# Altium schematic symbol library HARDWARE TASK_SCH_LIB.SchLib: 26 symbols
Pins are listed as number, name and electrical type; pins without a type are passive.

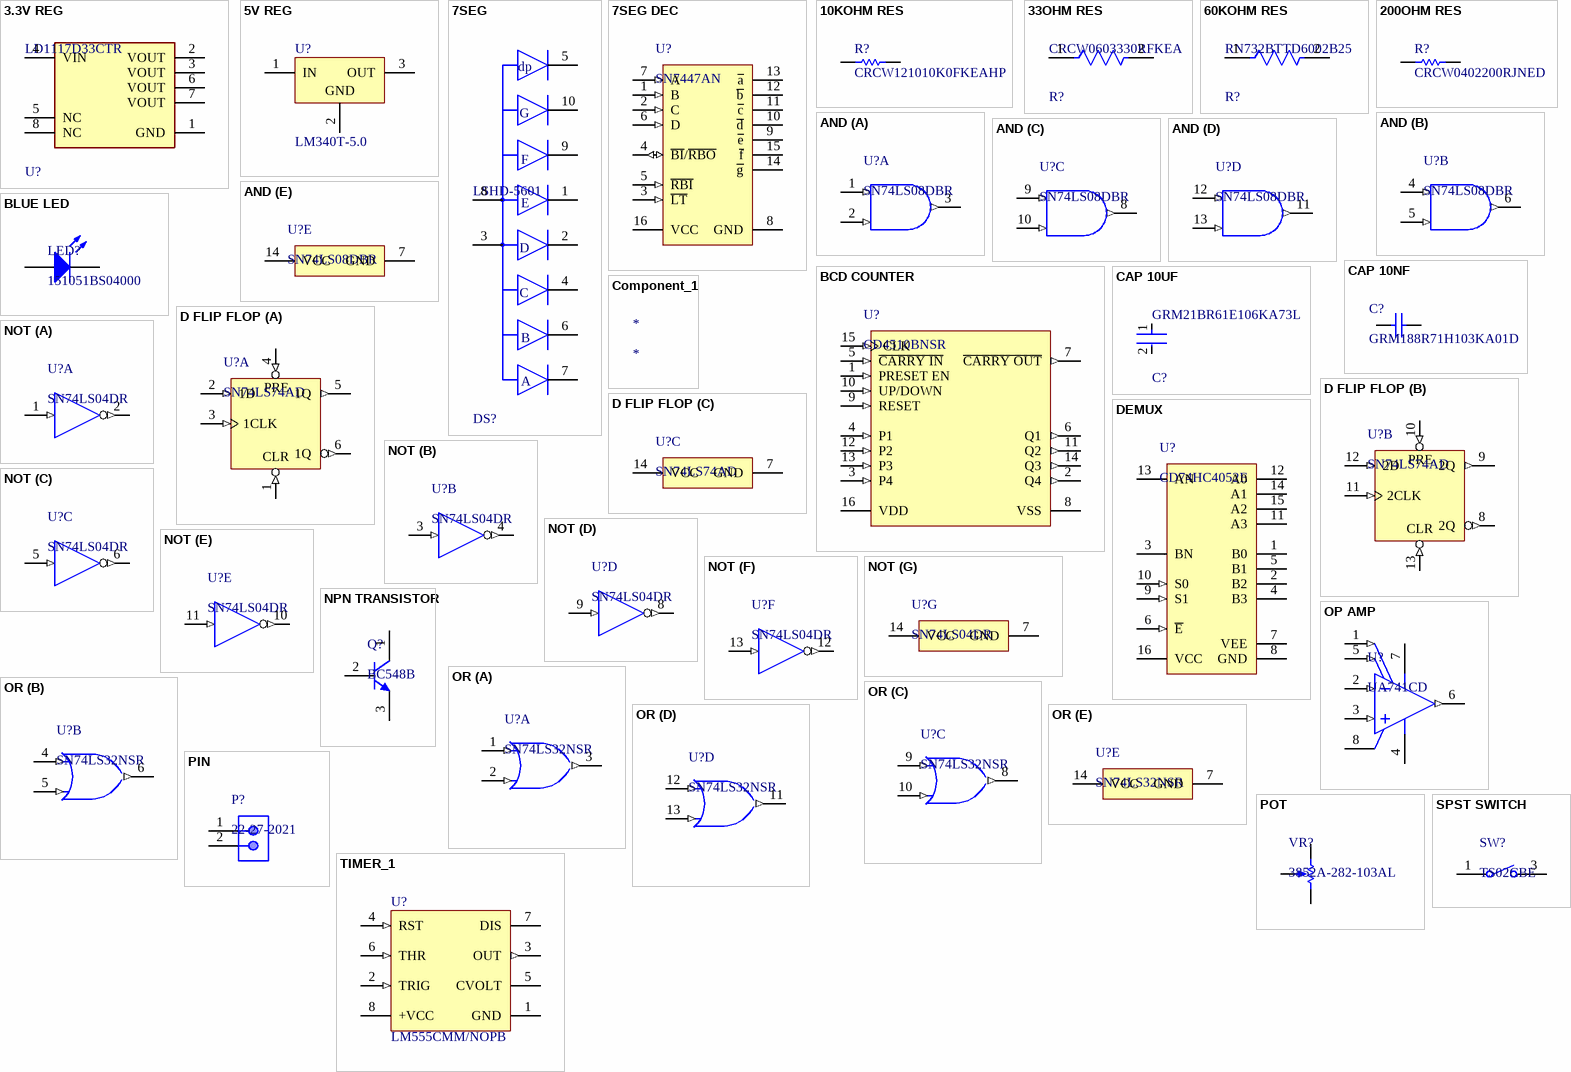
[diagram p0: symbols 3.3V REG to TIMER_1]

## 3.3V REG
designator U?, comment LD1117D33CTR
IC REG LINEAR 3.3V 800MA 8SO; Accuracy: 1%; Max Input Voltage: 15V; Quiescent Current: 10mA; Number of Regulators: 1; Output Current: 1.3A; Max Power Dissipation: 12W; Output Type: Fixed; Input Bias Current: 5mA; Dropout Voltage: 1.1V; Polarity: Positive; Lead Free: Lead Free; Radiation Hardening: No; Number of Pins: 8; Output Voltage: 3.3V; Min Output Voltage: 3.3V; Width: 4mm; Packaging: Tape and Reel; Number of Outputs: 1; Max Operating Temperature: 125°C; Package Quantity: 1; Mount: Surface Mount; Min Operating Temperature: -40°C; Height: 1.65mm; Case/Package: SO; Power Dissipation: 12W; Max Output Current: 1.3A; Length: 5mm; Output Voltage Accuracy: 1%
footprint 3.3V REG
pins: 1 GND (power), 2 VOUT (power), 3 VOUT (power), 4 VIN (power), 5 NC, 6 VOUT (power), 7 VOUT (power), 8 NC

## 5V REG
designator U?, comment LM340T-5.0
Series 3-Terminal Positive Regulators, 3-pin TO-220; Manufacturer: Texas Instruments; PowerWise: N; CompType: LDO IC; PackageTopMarking: NSUZXYTTE#*LM340T5*7805 P+; RoHS: N; ComponentLink1URL: http://www.ti.com/general/docs/lit/getliterature.tsp?genericPartNumber=LM340-N&fileType=pdf; PinCount: 3; PackageReference: NDE0003A; ComponentLink1Description: Datasheet URL; PackageDescription: TO-220, Molded, 3 Lead, Straight
footprint 5V REG (FM, 3-Leads, Body 10.7x4.7mm, Pitch 2.54mm)
pins: 1 IN (power), 2 GND (power), 3 OUT (power)

## 7SEG
designator DS?, comment LSHD-5601
LED 7-SEG .56" GREEN 565NM CA; Manufacturer: Lite-On; Wavelength: 569nm; Luminous Intensity: 2.4mcd; Forward Current: 20mA; Forward Voltage: 2.1V; Element Config: Common Anode; Reverse Voltage: 5V; Device Class L1: Optoelectronics; ComponentLink2URL: https://media.digikey.com/pdf/Data%20Sheets/Lite-On%20PDFs/LSHD-5601.pdf; Temperature Range High: +105°C; ComponentLink2Description: Datasheet; Automotive: No; Temperature: -35°C to +105°C; Mouser Description: LED Displays & Accessories Green, Low Current 0.56, CARHD; Package: LSHD-5601; Device Class L3: LED Displays; Height: 8.25mm; Digikey Description: LED 7-SEG .56" GREEN 565NM CA; Category: Disp; Display Type: LED; Octopart: https://octopart.com/lshd-5601-lite-on-548440; Lead Free: Yes; Temperature Range Low: -35°C; RoHS: TRUE; Test Current: 20mA; Manufacturer Part Number: LSHD-5601; Device Class L2: Displays
footprint 7SEG
pins: 1 CATHODE E, 2 CATHODE D, 3 COMMON ANODE, 4 CATHODE C, 5 CATHODE DP, 6 CATHODE B, 7 CATHODE A, 8 COMMON ANODE, 9 CATHODE F, 10 CATHODE G
text: dp; G; F; E; D; C; B; A

## 7SEG DEC
designator U?, comment SN7447AN
BCD-to-7-Segment Decoder / Driver, 4.75 to 5.25 V, 0 to 70 degC, 16-pin DIP (N16), Pb-Free (RoHS); Manufacturer: Texas Instruments; SubFamily: Discrete Segment LED Driver; Vin(Max)(V): 5.25; Vin(Min)(V): 4.75; ComponentLink2Description: Datasheet; ComponentLink1URL: http://www.ti.com/; Mounting Technology: Through Hole; PackageReference: N0016A; ComponentLink1Description: Manufacturer URL; PartNumber: SN7447AN; PackageVersion: 4040049/E; ComponentLink3URL: http://www.ti.com/litv/pdf/mpdi002c; DatasheetVersion: SDLS111; ComponentLink2URL: http://www.ti.com/general/docs/lit/getliterature.tsp?genericPartNumber=SN7447A&fileType=pdf; Code_JEDEC: MS-001; ComponentLink3Description: Package Specification; Eco-Plan: Pb-Free (RoHS); PackageDescription: 16-Pin Plastic In-Line, Body 19.305 x 6.35 mm, Pitch 2.54 mm
footprint 7SEG DECODER (DIP, 16-Leads, Body 19.7x6.6mm, Pitch 2.54mm)
pins: 1 B (in), 2 C (in), 3 ~{LT} (in), 4 ~{BI}/~{RBO} (io), 5 ~{RBI} (in), 6 D (in), 7 A (in), 8 GND (power), 9 ~{e} (oc), 10 ~{d} (oc), 11 ~{c} (oc), 12 ~{b} (oc), 13 ~{a} (oc), 14 ~{g} (oc), 15 ~{f} (oc), 16 VCC (power)

## 10KOHM RES
designator R?, comment CRCW121010K0FKEAHP
Manufacturer: Vishay Dale; Part Number: CRCW121010K0FKEAHP
footprint 10KOHM RES (Chip Resistor, 2-Leads, Body 3.20x2.50mm, IPC High Density)
pins: 1, 2
1 alternate drawing of the same symbol

## 33OHM RES
designator R?, comment CRCW0603330RFKEA
RES Thick Film, 330Ω, 1%, 0.1W, 100ppm/°C, 0603; Voltage Rating: 75V; Max Power Dissipation: 100mW; Resistance: 330R; Depth: 0.85mm; Contact Plating: Tin; Package Quantity: 10; Termination: SMD/SMT; Tolerance: 1%; Height: 0.45mm; Number of Terminations: 2; Radiation Hardening: No; Features: Automotive AEC-Q200; Case/Package: 0603; Mount: Surface Mount; Case Code (Metric): 1608; Lead Free: Lead Free; Temperature Coefficient: 100ppm/°C; Weight: 7.1E-05oz; Military Standard: Not; Packaging: Tape and Reel; Max Operating Temperature: 155°C; Voltage Rating (DC): 75V; Length: 1.55mm; Min Operating Temperature: -55°C; Composition: Thick Film; Case Code (Imperial): 0603; Width: 0.033inch; Power Rating: 100mW
footprint 330OHM RES
pins: 1, 2

## 60KOHM RES
designator R?, comment RN732BTTD6002B25
60kΩ ±0.1% 0.125W, 1/8W Chip Resistor 1206 (3216 Metric) Moisture Resistant Thin Film; Resistance: 60kR; Voltage Rating: 150V; Power Rating: 125mW; Temperature Coefficient: 25ppm/°C; Length: 3.2mm; Min Operating Temperature: -55°C; Width: 1.6mm; Termination: SMD/SMT; Weight: 0.000571oz; Max Operating Temperature: 125°C; Tolerance: 0.1%; Composition: Thin Film; Height: 0.6mm; Packaging: Tape and Reel; Case Code (Metric): 3216; Case Code (Imperial): 1206; Case/Package: 1206
footprint 60KOHM RES
pins: 1, 2

## 200OHM RES
designator R?, comment CRCW0402200RJNED
Manufacturer: Vishay Dale; Part Number: CRCW0402200RJNED
footprint 200 OHM RES (Chip Resistor, 2-Leads, Body 1.00x0.50mm, IPC High Density)
pins: 1, 2
1 alternate drawing of the same symbol

## AND
designator U?, comment SN74LS08DBR
Quadruple 2-Input Positive-AND Gates, DB0014A, LARGE T&R; Manufacturer: Texas Instruments; F @ Nom Voltage(Max)(Mhz): 35; Output Type: TTL; VCC(Min)(V): 4.75; Output Drive (IOL/IOH)(Max)(mA): -0.8/16; Voltage(Nom)(V): 5; VCC(Max)(V): 5.25; Schmitt Trigger: No; Technology Family: LS; ICC @ Nom Voltage(Max)(mA): 0.021; tpd @ Nom Voltage(Max)(ns): 25; Rating: Catalog; Bits(#): 4; Generic Part Number: SN74LS08; Operating Temperature Range(C): 0 to 70; DatasheetVersion: SDLS033; Input Type: TTL; PackageReference: DB0014A
footprint AND (SOP, 14-Leads, Body 5.6x6.5mm, Pitch 0.65mm, IPC High Density)
part A pins: 1 1A (in), 2 1B (in), 3 1Y (out)
part B pins: 4 2A (in), 5 2B (in), 6 2Y (out)
part C pins: 8 3Y (out), 9 3A (in), 10 3B (in)
part D pins: 11 4Y (out), 12 4A (in), 13 4B (in)
part E pins: 7 GND (power), 14 VCC (power)

## BCD COUNTER
designator U?, comment CD4510BNSR
CMOS Presettable BCD Up/Down Counter, NS0016A, LARGE T&R; Manufacturer: Texas Instruments; Bits(#): 4; VCC(Min)(V): 3; Voltage(Nom)(V): 5,10,15; Schmitt Trigger: No; Output Drive (IOL/IOH)(Max)(mA): 1.5/-1.5; Rating: Catalog; Inputs: 1; VCC(Max)(V): 18; Technology Family: CD4000; F @ Nom Voltage(Max)(Mhz): 8; ICC @ Nom Voltage(Max)(mA): 0.03; tpd @ Nom Voltage(Max)(ns): 200; PackageReference: NS0016A; DatasheetVersion: SCHS071B; Generic Part Number: CD4510B; Operating Temperature Range(C): -55 to 125; Output Type: CMOS; Input Type: CMOS; Type: Other; Function: Counter
footprint BCD COUNTER (SOIC,16-Leads,Body 10.5x5.6mm,Pitch 1.27mm,IPC High Density)
pins: 1 PRESET EN (in), 2 Q4 (out), 3 P4 (in), 4 P1 (in), 5 ~{CARRY IN} (in), 6 Q1 (out), 7 ~{CARRY OUT} (out), 8 VSS (power), 9 RESET (in), 10 UP/DOWN (in), 11 Q2 (out), 12 P2 (in), 13 P3 (in), 14 Q3 (out), 15 CLK (in), 16 VDD (power)

## BLUE LED
designator LED?, comment 151051BS04000
THT LED round mono-color color lens, WL-TMRW, Blue; Manufacturer: Wuerth Elektronik; PackageReference: Type 5mm; ComponentLink2Description: Datasheet; ComponentLink1Description: Manufacturer URL; Emitting color: Blue; ComponentLink1URL: http://www.we-online.com; PartNumber: 151051BS04000; ComponentLink2URL: http://katalog.we-online.de/pbs/datasheet/7448042001.pdfhttp://katalog.we-online.de/pbs/datasheet/7448042001.pdfhttp://katalog.we-online.de/pbs/datasheet/7448042001.pdfhttp://katalog.we-online.de/pbs/datasheet/151051BS04000.pdf
footprint BLUE LED (THT, LED-5mm, 2pin- Body 5.8mm)
pins: 1 K, 2 A

## CAP 10NF
designator C?, comment GRM188R71H103KA01D
Chip Capacitor, 10 nF, +/- 10%, 50 V, -55 to 125 degC, 0603 (1608 Metric), RoHS, Tape and Reel; Manufacturer: Murata; Insulation Resistance: 10GR; Dielectric: X7R; Voltage Rating: 50V; Capacitance: 10nF; Material: Ceramic; Package Quantity: 1; Lead Free: LeadFree; Case/Package: 0603; Termination: SMD/SMT; REACH SVHC: Unknown; Manufacturer URL: http://www.murata.com/; Datasheet URL: http://search.murata.co.jp/Ceramy/image/img/A01X/G101/ENG/GRM188R71H103KA01-01.pdf; Mount: SurfaceMount; Datasheet Version: 42401.0; Number of Pins: 2; Length: 1.6mm; Voltage: 50V; Depth: 0.8mm; Tolerance: 10%; Min Operating Temperature: -55degC; Voltage Rating (DC): 50V; Max Operating Temperature: 125degC; Package Description: 2-Pin Surface Mount Device, Body 1.6 x 0.8 mm; RoHSCompliant: True; Case Code (Imperial): 0603; Width: 0.031inch; Case Code (Metric): 1608; Height: 0.8mm; Package Reference: 0603; Packaging: TapeandReel; Thickness: 0.035inch; Dielectric Material: Ceramic
footprint CAP 10NF
pins: 1, 2

## CAP 10UF
designator C?, comment GRM21BR61E106KA73L
Chip Multilayer Ceramic Capacitors for General Purpose, 0805, 10uF, X5R, 15%, 10%, 25V; Length: 2mm; Depth: 1.25mm; Termination: SMD/SMT; Voltage: 25V; Height: 1.25mm; Material: Ceramic; Thickness: 0.053inch; Radiation Hardening: No; Min Operating Temperature: -55°C; Width: 0.049inch; Package Quantity: 1; Mount: Surface Mount; Dielectric: X5R; Packaging: Tape and Reel; Capacitance: 10uF; Voltage Rating (DC): 25V; Lead Free: Lead Free; Max Operating Temperature: 85°C; Case Code (Imperial): 0805; Case/Package: 0805; Tolerance: 10%; Voltage Rating: 25V; Case Code (Metric): 2012
footprint CAP 10UF
pins: 1, 2

## Component_1
designator *

## D FLIP FLOP
designator U?, comment SN74LS74AD
Dual D-type pos.-edge-triggered flip-flops with preset and clear, D0014A, TUBE; Manufacturer: Texas Instruments; Output Drive (IOL/IOH)(Max)(mA): 8/-0.4; Voltage(Nom)(V): 5; Output: 3S; ICC @ Nom Voltage(Max)(mA): 8; tpd @ Nom Voltage(Max)(ns): 40; Rating: Catalog; VCC(Min)(V): 4.75; Output Type: TTL; Technology Family: LS; VCC(Max)(V): 5.25; Bits(#): 2; Output Logic: Inverted,Non-inverted; 3-State Output: No; F @ Nom Voltage(Max)(Mhz): 35; DatasheetVersion: SDLS119; Generic Part Number: SN74LS74A; Operating Temperature Range(C): 0 to 70; Input Type: TTL; PackageReference: D0014A; Code_JEDEC: MS-012; Schmitt Trigger: No
footprint D FLIP FLOP (SOIC, 14-Leads, Body 8.75x4mm, Pitch 1.27mm, IPC High Density)
part A pins: 1 1~{CLR} (in), 2 1D (in), 3 1CLK (in), 4 1~{PRE} (in), 5 1Q (out), 6 1Q (out)
part B pins: 8 2Q (out), 9 2Q (out), 10 2~{PRE} (in), 11 2CLK (in), 12 2D (in), 13 2~{CLR} (in)
part C pins: 7 GND (power), 14 VCC (power)
part A text: PRE; CLR
part B text: PRE; CLR

## DEMUX
designator U?, comment CD74HC4052E
High Speed CMOS Differential 4-Channel Analog Multiplexer/Demultiplexer, N0016A, TUBE; Manufacturer: Texas Instruments; Ron(Max)(Ohms): 130; Ron(Typ)(Ohms): 45; Bandwidth(Max)(MHz): 185; VCC(Min)(V): 2; Configuration: 2 X 1：4 MUX; VCC(Max)(V): 6; Rating: Catalog; Crosstalk: Yes; Operating Temperature Range(C): -55 to 125; Code_JEDEC: MS-001; Output Type: CMOS; DatasheetVersion: SCHS122J; PackageVersion: http://www.ti.com/lit/ml/mpdi002c/mpdi002c.pdf; Generic Part Number: CD74HC4052; PackageReference: N0016A
footprint DEMUX (DIP, 16-Leads, Body 19.7x6.6mm, Pitch 2.54mm)
pins: 1 B0, 2 B2, 3 BN, 4 B3, 5 B1, 6 ~{E} (in), 7 VEE (power), 8 GND (power), 9 S1 (in), 10 S0 (in), 11 A3, 12 A0, 13 AN, 14 A1, 15 A2, 16 VCC (power)

## NOT
designator U?, comment SN74LS04DR
Hex inverters, D0014A, LARGE T&R; Manufacturer: Texas Instruments; Output Drive (IOL/IOH)(Max)(mA): -0.4/8; F @ Nom Voltage(Max)(Mhz): 35; Rating: Catalog; Voltage(Nom)(V): 5; Input Type: TTL; Bits(#): 6; tpd @ Nom Voltage(Max)(ns): 22; Schmitt Trigger: No; ICC @ Nom Voltage(Max)(mA): 0.033; Technology Family: LS; VCC(Min)(V): 4.75; Output Type: CMOS; VCC(Max)(V): 5.25; DatasheetVersion: SDLS029C; Code_JEDEC: MS-012; Operating Temperature Range(C): 0 to 70; PackageReference: D0014A; Generic Part Number: SN74LS04
footprint INVERTER NOT (SOIC, 14-Leads, Body 8.75x4mm, Pitch 1.27mm, IPC High Density)
part A pins: 1 1A (in) "Input 1A", 2 ~{1Y} (out) "Output 1Y"
part B pins: 3 2A (in) "Input 2A", 4 ~{2Y} (out) "Output 2Y"
part C pins: 5 3A (in) "Input 3A", 6 ~{3Y} (out) "Output 3Y"
part D pins: 8 ~{4Y} (out) "Output 4Y", 9 4A (in) "Input 4A"
part E pins: 10 ~{5Y} (out) "Output 5Y", 11 5A (in) "Input 5A"
part F pins: 12 ~{6Y} (out) "Output 6Y", 13 6A (in) "Input 6A"
part G pins: 7 GND (power) "Ground Pin", 14 VCC (power) "Power Pin"

## NPN TRANSISTOR
designator Q?, comment BC548B
Amplifier Transistor, NPN Silicon, 3-Pin TO-92, Bulk Box; Manufacturer: On Semiconductor; IC Continuous (A): 0.1; fT Min (MHz): 150; Mounting Technology: Through Hole; ComponentLink3Description: Package Specification; Polarity: NPN; ComponentLink3URL: http://www.onsemi.cn/pub_link/Collateral/2N6426-D.PDF; PartNumber: BC548B; ComponentLink2Description: Datasheet; ComponentLink1Description: Manufacturer URL; ComponentLink2URL: http://www.onsemi.com/pub_link/Collateral/BC546-D.PDF; PackageReference: TO-92-3-29-11_AM_SL; DatasheetVersion: Rev. 7; PackageDescription: 3-Pin Transistor Outline, Body 4.825 x 3.685 mm, Pitch 1.27 mm; PackageVersion: Rev. AM; Packing: Bulk Box; RoHS: FALSE; ComponentLink1URL: http://www.onsemi.com/
footprint NPN TRANS (TO, 3-Leads, Body Dia 4.7mm, Pitch 1.27mm)
pins: 1 C, 2 B, 3 E

## OP AMP
designator U?, comment UA741CD
General-Purpose Operational Amplifier, 7 to 36 V, 0 to 70 degC, 8-pin SOIC (D8), Green (RoHS & no Sb/Br); Manufacturer: Texas Instruments; Total Supply Voltage(Max)(+5V is 5, +/-5V is 10): 36; Number of Channels: 1; Total Supply Voltage(Min)(+5V is 5, +/-5V is 10): 7; Iq per channel(Max)(mA): 2.8; Slew Rate(Typ)(V/us): 0.5; Vio (25C)(Max)(mV): 6; Sub Family: General Purpose Amplifier, High Supply Voltage Amplifier (>=30V); CMRR(Min)(dB): 70; IIB(Max)(pA): 800000; Code_JEDEC: MS-012; Eco-Plan: Green (RoHS & no Sb/Br); PackageReference: D0008A; ComponentLink1Description: Manufacturer URL; PackageVersion: 4040047-3/M, 06/2011; ComponentLink3URL: http://www.ti.com/litv/pdf/msoi002j; PartNumber: UA741CD; ComponentLink1URL: http://www.ti.com/; DatasheetVersion: SLOS094B; GBW(Typ)(MHz): 1; ComponentLink2Description: Datasheet; Mounting Technology: Surface Mount; ComponentLink3Description: Package Specification; PackageDescription: 8-Pin Plastic Small Outline, Body 4.9 x 3.9 mm, Pitch 1.27 mm; ComponentLink2URL: http://www.ti.com/lit/ds/symlink/ua741.pdf
footprint OP AMP (SOIC, 8-Leads, Body 5x4mm, Pitch 1.27mm, IPC High Density)
pins: 1 OFFSET N1 (in), 2 IN- (in), 3 IN+ (in), 4 VCC- (power), 5 OFFSET N2 (in), 6 OUT (out), 7 VCC+ (power), 8 NC

## OR
designator U?, comment SN74LS32NSR
Quad 2-input positive-OR gates, NS0014A, LARGE T&R; Manufacturer: Texas Instruments; VCC(Max)(V): 5.25; VCC(Min)(V): 4.75; Input Type: TTL; Output Drive (IOL/IOH)(Max)(mA): 0.8/-16; Bits(#): 4; Rating: Catalog; ICC @ Nom Voltage(Max)(mA): 0.038; F @ Nom Voltage(Max)(Mhz): 35; Voltage(Nom)(V): 5; tpd @ Nom Voltage(Max)(ns): 22; PackageReference: NS0014A; Operating Temperature Range(C): 0 to 70; PackageVersion: http://www.ti.com/lit/ml/msop002a/msop002a.pdf; Output Type: TTL; DatasheetVersion: SDLS100; Generic Part Number: SN74LS32
footprint OR (SOP, 14-Leads, Body 10.2x5.3mm, Pitch 1.27mm, IPC High Density)
part A pins: 1 1A (in), 2 1B (in), 3 1Y (out)
part B pins: 4 2A (in), 5 2B (in), 6 2Y (out)
part C pins: 8 3Y (out), 9 3A (in), 10 3B (in)
part D pins: 11 4Y (out), 12 4A (in), 13 4B (in)
part E pins: 7 GND (power), 14 VCC (power)

## PIN
designator P?, comment 22-27-2021
Male Header, Pitch 2.54 mm, 1 x 2 Position, Height 11.7 mm, Tail Length 3.56 mm, 0 to 75 degC, RoHS, Bulk; Manufacturer: Molex; PartNumber: 0022272021; Current rating: 4A; Package Version: Rev. BC, 02/2012; Voltage rating: 250V; No. of Positions: 2; Pitch: 2.54mm; No. of Rows: 1; Orientation: Vertical; Operating temperature: 0°Cto+75°C; Manufacturer URL: http://www.molex.com/; Mounting Technology: ThroughHole; Housing material: Nylon(UL94V-0); Package Description: 2-Leads Header, Body 5.08 x 5.8 mm, Pitch 2.54 mm; Voltage - Max: 250V; Datasheet URL: http://www.molex.com/pdm_docs/sd/022272021_sd.pdf; Package Reference: 22-27-2021; Contact material: Tinplatedbrass; Current - Max: 4A; Datasheet Version: Rev. F, 06/2009
footprint PIN (Header, 2-Leads, Body 5.8x5.08mm)
pins: 1, 2

## POT
designator VR?, comment 3852A-282-103AL
Diameter Panel Control, 10 KOhm, +/- 10%, 2 W, -1 to 125 degC, 3-Pin THD, RoHS, Bulk; Manufacturer: Bourns; Temperature Coefficient: ±150ppm/degC; Number of Gangs: 1; Other Names: 3852A282103AL; Actuator Length: 0.875"(22.23mm); Resistive Material: Cermet; PCN Design/Specification: PBTResinJun/2011; Rotation: 280deg; PCN Other: MultipleChanges01/Dec/2012; Catalog Drawings: 3852SeriesSide1 / 3852SeriesSide2; Online Catalog: 3852and3856Series; Associated Product: 36-8560-ND / -KNOBINSTRUMW/DIALRND.9"DIA / 36-8555-ND / -KNOBINSTRUMSKIRTEDRND.7"DIA / 36-8556-ND / -KNOBINSTRUMSKIRTEDRND.9"DIA / 36-8565-ND / -KNOBINSTRUMDBLBARRND.7"DIA / 36-8566-ND / -KNOBINSTRUMDBLBARRND.9"DIA / 36-8568-ND / -KNOBINSTRUMSGLBARRND.7"DIA / 36-8569-ND / -KNOBINSTRUMSGLBARRND.9"DIA / 36-8559-ND / -KNOBINSTRUMW/DIALRND.7"DIA / 226-1006-ND / -KNOBBLKGLOSS.75"DIA.250"SHAFT / 226-1007-ND / -KNOBBLKGLOSS.925"DIA.250"SHAFT / 226-1011-ND / -KNOBBLKGLOS; Actuator Diameter: 0.250"(6.35mm); Built in Switch: None; Resistance (Ohms): 10k; Power (Watts): 2W; Actuator Type: Slotted; Standard Package: 45; Tolerance: ±10%; Taper: Linear; Series: 3852; Packaging: Bulk; Category: Potentiometers,VariableResistors; Bushing Thread: 3/8-32; Datasheet URL: https://datasheet.ciiva.com/11831/0900766b80f93b4b-11831016.pdf; Datasheet Version: Sep-14; Number of Turns: 1; Family: RotaryPotentiometers,Rheostats; Termination Style: SolderLug; RoHS Information: 3852A-LMaterialDeclaration; Mounting Type: PanelMount; Manufacturer URL: http://www.bourns.com/
footprint POT (TH, 3-Leads, Body 19.81x19.05mm, Pitch 6.35mm)
pins: 1 CCW, 2 S, 3 CW

## SPST SWITCH
designator SW?, comment TS02CBE
Tiny Slide Switch, SPST, 20 V, -30 to 85 degC, 2-Pin THD, RoHS, Bulk; Manufacturer: C&K Components; Product Height (mm): 12.91mm; Actuator Style: TopSlide; Product Length (mm): 10.16mm; Switch Configuration: OFFNoneON; AC Voltage Rating (Max): 20V; Product Depth (mm): 5.08mm; Actuator Material: Nylon; Mounting Technology: ThroughHole; Manufacturer URL: http://www.ckswitches.com/; Type: Tiny; Pole Throw Configuration: SPST; Terminal Type: PCPins; Package Reference: TS02CBE; Package Description: 2-Pin Through Hole Device, Body 10.16 x 5.08 mm; Datasheet Version: 02/2016; Datasheet URL: http://www.ck-components.com/media/1426/ts_12feb16.pdf; Contact Material: CopperAlloy; Housing Material: N/A/StainlessSteel; Operating Temp Range: -30Cto85C; Contact Plating: Gold/Nickel; DC Voltage Rating (Max): 20V; Mounting Style: ThroughHole
footprint SPST SWITCH (THD, 2-Leads, Body 10.16x5.08mm)
pins: 1, 3

## TIMER_1
designator U?, comment LM555CMM/NOPB
Timer, 8-pin Mini SOIC, Pb-Free; Manufacturer: Texas Instruments; CompType: Analog IC; PowerWise: N; PackageTopMarking: ZXTT*Z55; ComponentLink1URL: http://www.ti.com/general/docs/lit/getliterature.tsp?genericPartNumber=LM555&fileType=pdf; PackageDescription: MINI SOIC, .118 x .118 x .034in, 8 Lead, .0256in Pitch; PinCount: 8; RoHS: Y; ComponentLink1Description: Datasheet URL; PackageReference: DGK0008A; Code_JEDEC: MO-187-AA
footprint TIMER_1 (TSOP, 8-Leads, Body 3.1x3.1mm, Pitch 0.65mm, IPC High Density)
pins: 1 GND (power), 2 TRIG (in), 3 OUT (out), 4 RST (in), 5 CVOLT, 6 THR (in), 7 DIS (oc), 8 +VCC (power)

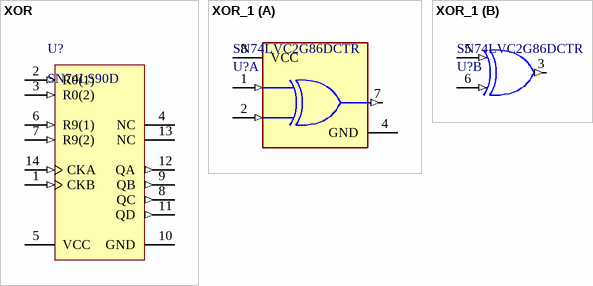
[diagram p1: symbols XOR to XOR_1]

## XOR
designator U?, comment SN74LS90D
Decade Counter, D0014A, TUBE; Manufacturer: Texas Instruments; tpd @ Nom Voltage(Max)(ns): 50; Voltage(Nom)(V): 5; Output Type: CMOS; VCC(Min)(V): 4.75; F @ Nom Voltage(Max)(Mhz): 35; Rating: Catalog; VCC(Max)(V): 5.25; Schmitt Trigger: No; ICC @ Nom Voltage(Max)(mA): 15; Bits(#): 4; Inputs: 1; Input Type: TTL; Output Drive (IOL/IOH)(Max)(mA): 8/-0.4; Technology Family: LS; Code_JEDEC: MS-012; Operating Temperature Range(C): 0 to 70; Function: Counter; DatasheetVersion: SDLS940A; Generic Part Number: SN74LS90; PackageReference: D0014A; Type: Decade
footprint D0014A_L (SOIC, 14-Leads, Body 8.75x4mm, Pitch 1.27mm, IPC High Density)
footprint D0014A_N (SOIC, 14-Leads, Body 8.75x4mm, Pitch 1.27mm, IPC Medium Density)
footprint D0014A_M (SOIC, 14-Leads, Body 8.75x4mm, Pitch 1.27mm, IPC Low Density)
pins: 1 CKB (in), 2 R0(1) (in), 3 R0(2) (in), 4 NC, 5 VCC (power), 6 R9(1) (in), 7 R9(2) (in), 8 QC (out), 9 QB (out), 10 GND (power), 11 QD (out), 12 QA (out), 13 NC, 14 CKA (in)

## XOR_1
designator U?, comment SN74LVC2G86DCTR
IC GATE XOR 2CH 2-INP SM8; Number of Bits: 2; High Level Output Current: -32mA; Logic Function: XOR GATE; Turn-On Delay Time: 3.6ns; Low Level Output Current: 32mA; Number of Output Lines: 1; Quiescent Current: 10uA; Max Supply Voltage: 5.5V; Schmitt Trigger Input: No; Min Supply Voltage: 1.65V; Number of Inputs: 2; Min Operating Temperature: -40°C; Weight: 0.000825oz; Technology: CMOS; Contact Plating: Gold; Output Current: 32mA; Number of Circuits: 2; Packaging: Tape and Reel; Number of Pins: 8; Number of Elements: 2; Mount: Surface Mount; Package Quantity: 1; Series: 74LVC; Width: 2.8mm; Radiation Hardening: No; Max Operating Temperature: 125°C; REACH SVHC: No SVHC; Lead Free: Lead Free; Height: 1.29mm; RoHS Compliant: Yes; Propagation Delay: 3.6ns; Number of Gates: 2; Number of Outputs: 1; Case/Package: SSOP; Length: 2.95mm; Number of Input Lines: 2
footprint XOR - duplicate
part A pins: 1 1A (in), 2 1B (in), 4 GND (power), 7 1Y (out), 8 VCC (power)
part B pins: 3 2Y (out), 5 2A (in), 6 2B (in)